# Altium footprint library Student19-Lib.PcbLib: 3 footprints
Each footprint in its own frame and in the unit in brackets; x right, y up, seen from the top. Pads: shape width x height; smd on the part's side, far side on the other; paste and mask are expansions set on the pad; w line width, h text height; cw(c..) or ccw(c..) is an arc to the next point about the centre after c.
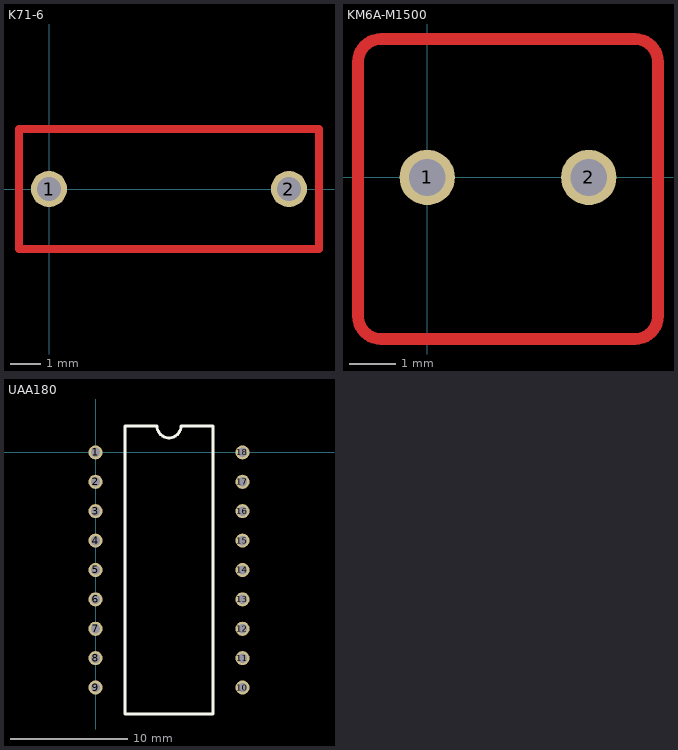
[diagram p0: the footprints below, top view; thin cyan lines are the x and y axes]

## K71-6 [mm] "K71-6 Footprint"
height 4
pads (2):
  round 1.2 hole 0.8: 1(0,0) 2(8,0)
Top Layer:
  lines w0.254: -1,-2 9,-2 9,2 -1,2 -1,-2

## KM6A-M1500 [mm] "KM6A-M1500 Footprint"
height 4.5
pads (2):
  round 1.2 hole 0.8: 1(0,0) 2(3.5,0)
Top Layer:
  lines w0.254: -1.5,-3 ccw(c-1,-3) -1,-3.5 4.5,-3.5 ccw(c4.5,-3) 5,-3 5,2.5 ccw(c4.5,2.5) 4.5,3 -1,3 ccw(c-1,2.5) -1.5,2.5 -1.5,-3

## UAA180 [mm] "UAA180 Footprint"
height 24.5
pads (18):
  round 1.2 hole 0.8: 1(0,0) 2(0,-2.5) 3(0,-5) 4(0,-7.5) 5(0,-10) 6(0,-12.5) 7(0,-15) 8(0,-17.5) 9(0,-20) 10(12.5,-20) 11(12.5,-17.5) 12(12.5,-15) 13(12.5,-12.5) 14(12.5,-10) 15(12.5,-7.5) 16(12.5,-5) 17(12.5,-2.5) 18(12.5,0)
Top Overlay:
  lines w0.254: 2.5,-22.25 2.5,2.25 5.234,2.25 ccw(c6.25,2.25) 7.266,2.25 10,2.25 10,-22.25 2.5,-22.25